# EAGLE library part JHL9480 (library JHL9480_Eagle_R01)
DISCLAIMER: THE DESIGN HASN'T BEEN VERIFIED, JUST FOR YOUR REFERENCE. EVERYTHING IS PROVIDED AS IS, WITHOUT WARRANTY OF ANY KIND, NOT RESPONSIBLE FOR THE QUALITY. If you find any issues with this file, please create an issue in the repo projects.kolabo.dev/
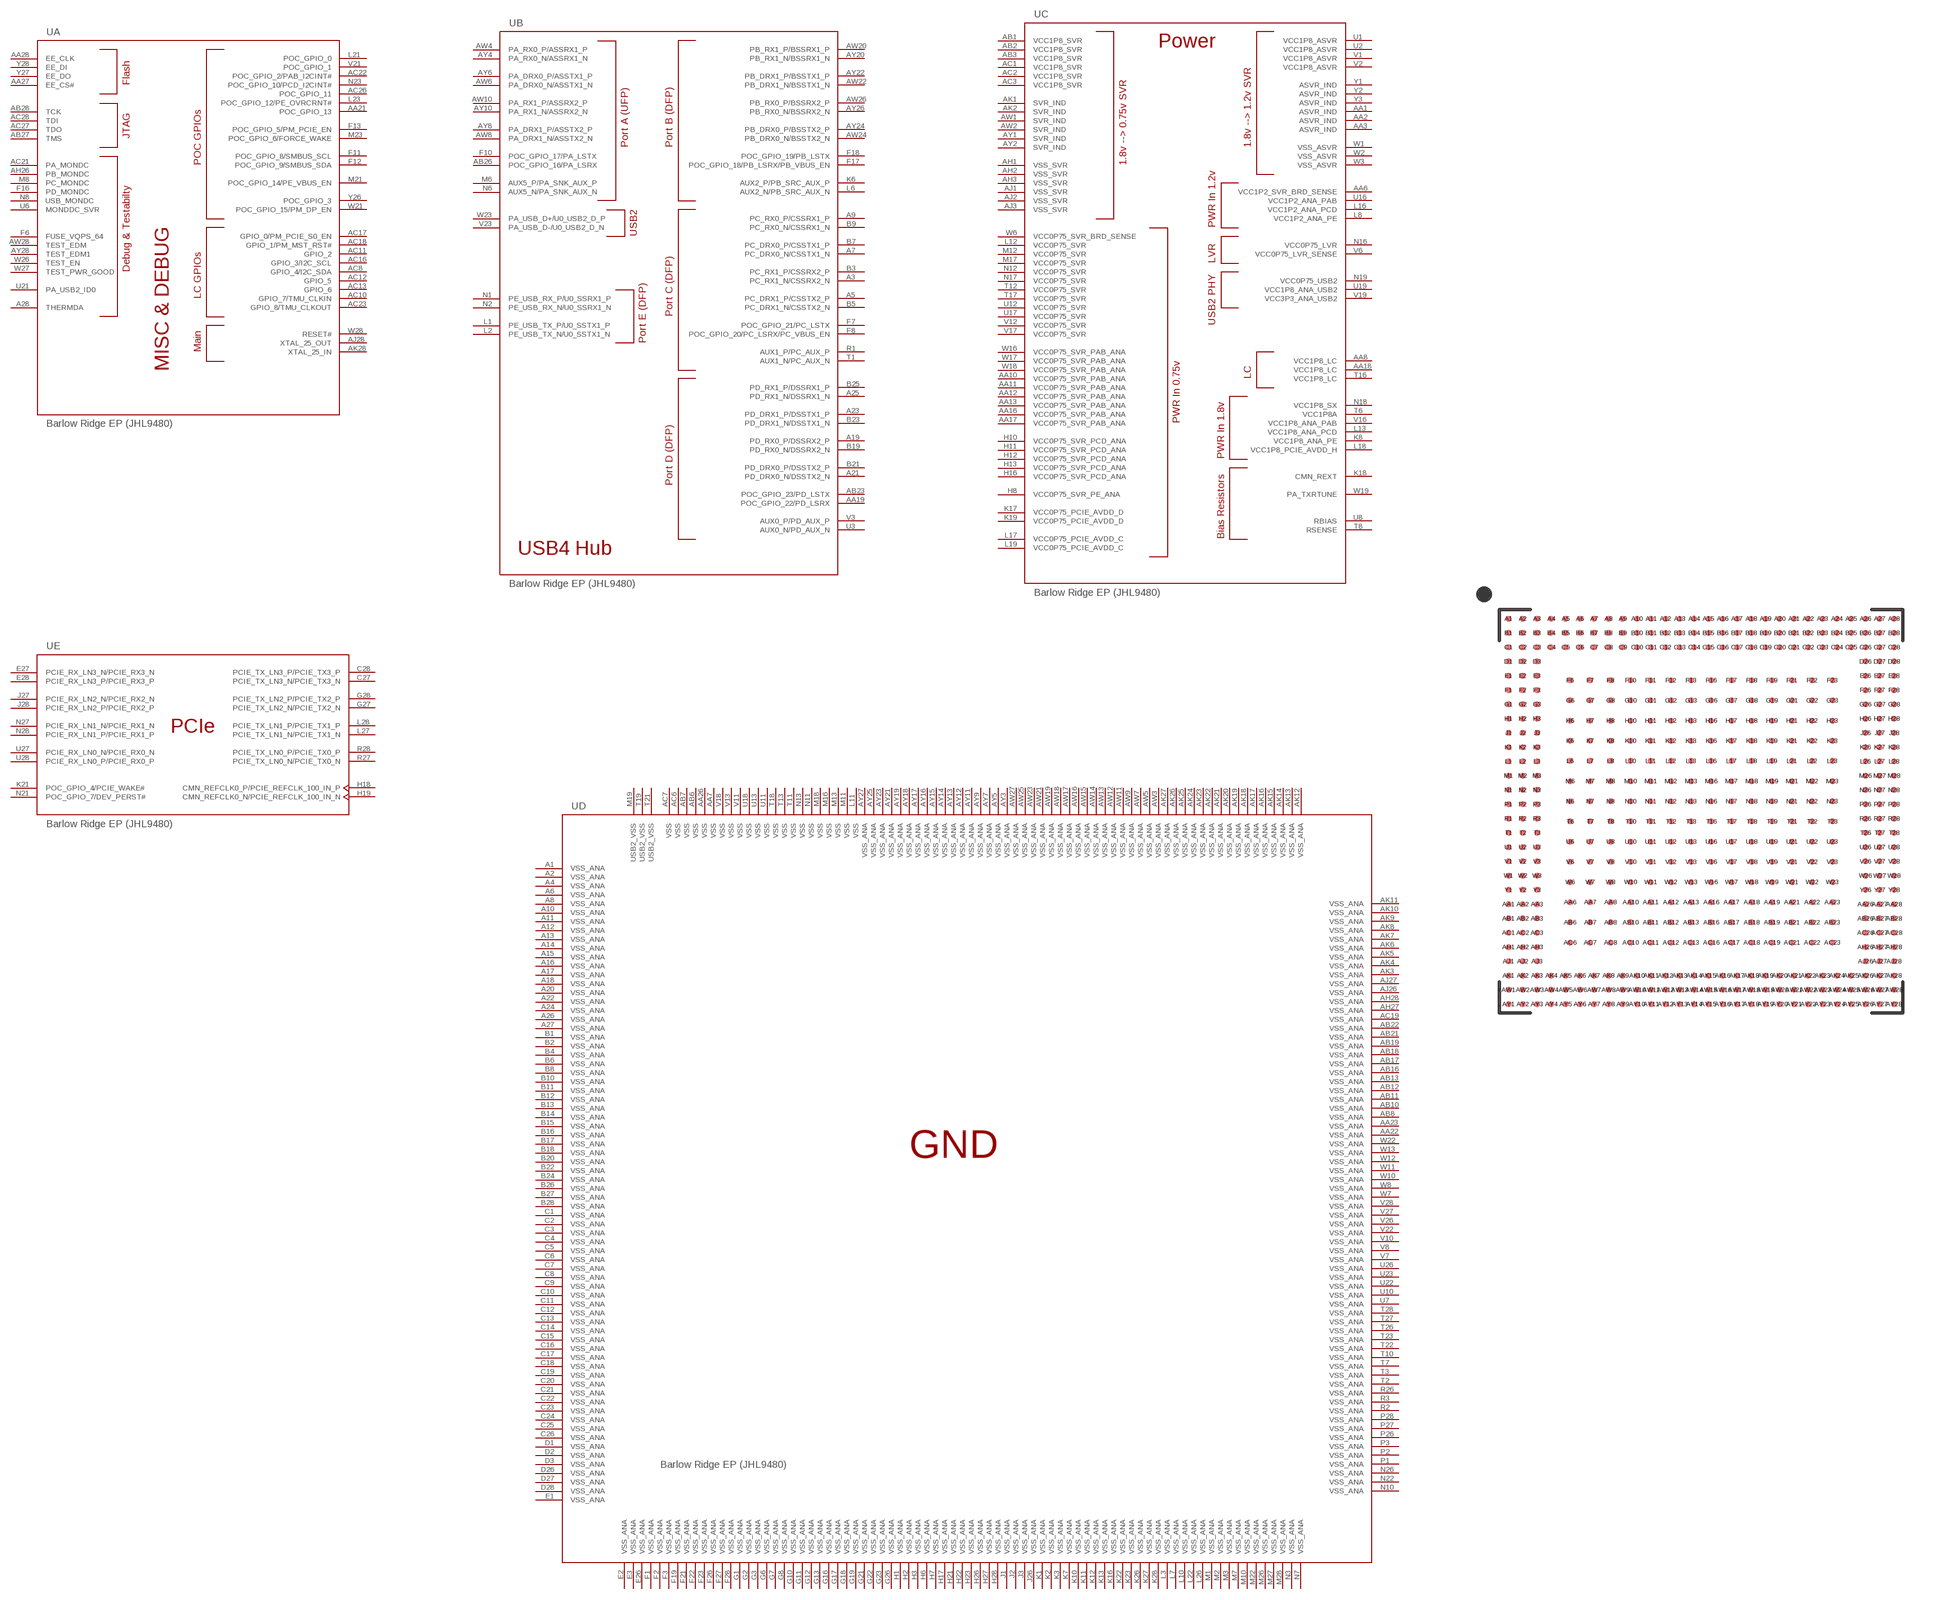
[diagram p0: symbol with the pads of BARLOW_RIDGE_BGA_496P; footprint BARLOW_RIDGE_BGA_496P]

Designator prefix -; gates A=JHL9480_A B=JHL9480_B C=JHL9480_C E=JHL9480_E D=JHL9480_D

## JHL9480B0  [BARLOW_RIDGE_BGA_496P]
A1  D:VSS_ANA
A2  D:VSS_ANA
A3  B:PC_RX1_N/CSSRX2_N
A4  D:VSS_ANA
A5  B:PC_DRX1_P/CSSTX2_P
A6  D:VSS_ANA
A7  B:PC_DRX0_N/CSSTX1_N
A8  D:VSS_ANA
A9  B:PC_RX0_P/CSSRX1_P
A10  D:VSS_ANA
A11  D:VSS_ANA
A12  D:VSS_ANA
A13  D:VSS_ANA
A14  D:VSS_ANA
A15  D:VSS_ANA
A16  D:VSS_ANA
A17  D:VSS_ANA
A18  D:VSS_ANA
A19  B:PD_RX0_P/DSSRX2_P
A20  D:VSS_ANA
A21  B:PD_DRX0_N/DSSTX2_N
A22  D:VSS_ANA
A23  B:PD_DRX1_P/DSSTX1_P
A24  D:VSS_ANA
A25  B:PD_RX1_N/DSSRX1_N
A26  D:VSS_ANA
A27  D:VSS_ANA
A28  A:THERMDA
AA1  C:ASVR_IND
AA2  C:ASVR_IND
AA3  C:ASVR_IND
AA6  C:VCC1P2_SVR_BRD_SENSE
AA7  D:VSS
AA8  C:VCC1P8_LC
AA10  C:VCC0P75_SVR_PAB_ANA
AA11  C:VCC0P75_SVR_PAB_ANA
AA12  C:VCC0P75_SVR_PAB_ANA
AA13  C:VCC0P75_SVR_PAB_ANA
AA16  C:VCC0P75_SVR_PAB_ANA
AA17  C:VCC0P75_SVR_PAB_ANA
AA18  C:VCC1P8_LC
AA19  B:POC_GPIO_22/PD_LSRX
AA21  A:POC_GPIO_13
AA22  D:VSS_ANA
AA23  D:VSS_ANA
AA26  D:VSS
AA27  A:EE_CS#
AA28  A:EE_CLK
AB1  C:VCC1P8_SVR
AB2  C:VCC1P8_SVR
AB3  C:VCC1P8_SVR
AB6  D:VSS
AB7  D:VSS
AB8  D:VSS_ANA
AB10  D:VSS_ANA
AB11  D:VSS_ANA
AB12  D:VSS_ANA
AB13  D:VSS_ANA
AB16  D:VSS_ANA
AB17  D:VSS_ANA
AB18  D:VSS_ANA
AB19  D:VSS_ANA
AB21  D:VSS_ANA
AB22  D:VSS_ANA
AB23  B:POC_GPIO_23/PD_LSTX
AB26  B:POC_GPIO_16/PA_LSRX
AB27  A:TMS
AB28  A:TCK
AC1  C:VCC1P8_SVR
AC2  C:VCC1P8_SVR
AC3  C:VCC1P8_SVR
AC6  D:VSS
AC7  D:VSS
AC8  A:GPIO_4/I2C_SDA
AC10  A:GPIO_7/TMU_CLKIN
AC11  A:GPIO_2
AC12  A:GPIO_5
AC13  A:GPIO_6
AC16  A:GPIO_3/I2C_SCL
AC17  A:GPIO_0/PM_PCIE_S0_EN
AC18  A:GPIO_1/PM_MST_RST#
AC19  D:VSS_ANA
AC21  A:PA_MONDC
AC22  A:POC_GPIO_2/PAB_I2CINT#
AC23  A:GPIO_8/TMU_CLKOUT
AC26  A:POC_GPIO_11
AC27  A:TDO
AC28  A:TDI
AH1  C:VSS_SVR
AH2  C:VSS_SVR
AH3  C:VSS_SVR
AH26  A:PB_MONDC
AH27  D:VSS_ANA
AH28  D:VSS_ANA
AJ1  C:VSS_SVR
AJ2  C:VSS_SVR
AJ3  C:VSS_SVR
AJ26  D:VSS_ANA
AJ27  D:VSS_ANA
AJ28  A:XTAL_25_OUT
AK1  C:SVR_IND
AK2  C:SVR_IND
AK3  D:VSS_ANA
AK4  D:VSS_ANA
AK5  D:VSS_ANA
AK6  D:VSS_ANA
AK7  D:VSS_ANA
AK8  D:VSS_ANA
AK9  D:VSS_ANA
AK10  D:VSS_ANA
AK11  D:VSS_ANA
AK12  D:VSS_ANA
AK13  D:VSS_ANA
AK14  D:VSS_ANA
AK15  D:VSS_ANA
AK16  D:VSS_ANA
AK17  D:VSS_ANA
AK18  D:VSS_ANA
AK19  D:VSS_ANA
AK20  D:VSS_ANA
AK21  D:VSS_ANA
AK22  D:VSS_ANA
AK23  D:VSS_ANA
AK24  D:VSS_ANA
AK25  D:VSS_ANA
AK26  D:VSS_ANA
AK27  D:VSS_ANA
AK28  A:XTAL_25_IN
AW1  C:SVR_IND
AW2  C:SVR_IND
AW3  D:VSS_ANA
AW4  B:PA_RX0_P/ASSRX1_P
AW5  D:VSS_ANA
AW6  B:PA_DRX0_N/ASSTX1_N
AW7  D:VSS_ANA
AW8  B:PA_DRX1_N/ASSTX2_N
AW9  D:VSS_ANA
AW10  B:PA_RX1_P/ASSRX2_P
AW11  D:VSS_ANA
AW12  D:VSS_ANA
AW13  D:VSS_ANA
AW14  D:VSS_ANA
AW15  D:VSS_ANA
AW16  D:VSS_ANA
AW17  D:VSS_ANA
AW18  D:VSS_ANA
AW19  D:VSS_ANA
AW20  B:PB_RX1_P/BSSRX1_P
AW21  D:VSS_ANA
AW22  B:PB_DRX1_N/BSSTX1_N
AW23  D:VSS_ANA
AW24  B:PB_DRX0_N/BSSTX2_N
AW25  D:VSS_ANA
AW26  B:PB_RX0_P/BSSRX2_P
AW27  D:VSS_ANA
AW28  A:TEST_EDM
AY1  C:SVR_IND
AY2  C:SVR_IND
AY3  D:VSS_ANA
AY4  B:PA_RX0_N/ASSRX1_N
AY5  D:VSS_ANA
AY6  B:PA_DRX0_P/ASSTX1_P
AY7  D:VSS_ANA
AY8  B:PA_DRX1_P/ASSTX2_P
AY9  D:VSS_ANA
AY10  B:PA_RX1_N/ASSRX2_N
AY11  D:VSS_ANA
AY12  D:VSS_ANA
AY13  D:VSS_ANA
AY14  D:VSS_ANA
AY15  D:VSS_ANA
AY16  D:VSS_ANA
AY17  D:VSS_ANA
AY18  D:VSS_ANA
AY19  D:VSS_ANA
AY20  B:PB_RX1_N/BSSRX1_N
AY21  D:VSS_ANA
AY22  B:PB_DRX1_P/BSSTX1_P
AY23  D:VSS_ANA
AY24  B:PB_DRX0_P/BSSTX2_P
AY25  D:VSS_ANA
AY26  B:PB_RX0_N/BSSRX2_N
AY27  D:VSS_ANA
AY28  A:TEST_EDM1
B1  D:VSS_ANA
B2  D:VSS_ANA
B3  B:PC_RX1_P/CSSRX2_P
B4  D:VSS_ANA
B5  B:PC_DRX1_N/CSSTX2_N
B6  D:VSS_ANA
B7  B:PC_DRX0_P/CSSTX1_P
B8  D:VSS_ANA
B9  B:PC_RX0_N/CSSRX1_N
B10  D:VSS_ANA
B11  D:VSS_ANA
B12  D:VSS_ANA
B13  D:VSS_ANA
B14  D:VSS_ANA
B15  D:VSS_ANA
B16  D:VSS_ANA
B17  D:VSS_ANA
B18  D:VSS_ANA
B19  B:PD_RX0_N/DSSRX2_N
B20  D:VSS_ANA
B21  B:PD_DRX0_P/DSSTX2_P
B22  D:VSS_ANA
B23  B:PD_DRX1_N/DSSTX1_N
B24  D:VSS_ANA
B25  B:PD_RX1_P/DSSRX1_P
B26  D:VSS_ANA
B27  D:VSS_ANA
B28  D:VSS_ANA
C1  D:VSS_ANA
C2  D:VSS_ANA
C3  D:VSS_ANA
C4  D:VSS_ANA
C5  D:VSS_ANA
C6  D:VSS_ANA
C7  D:VSS_ANA
C8  D:VSS_ANA
C9  D:VSS_ANA
C10  D:VSS_ANA
C11  D:VSS_ANA
C12  D:VSS_ANA
C13  D:VSS_ANA
C14  D:VSS_ANA
C15  D:VSS_ANA
C16  D:VSS_ANA
C17  D:VSS_ANA
C18  D:VSS_ANA
C19  D:VSS_ANA
C20  D:VSS_ANA
C21  D:VSS_ANA
C22  D:VSS_ANA
C23  D:VSS_ANA
C24  D:VSS_ANA
C25  D:VSS_ANA
C26  D:VSS_ANA
C27  E:PCIE_TX_LN3_N/PCIE_TX3_N
C28  E:PCIE_TX_LN3_P/PCIE_TX3_P
D1  D:VSS_ANA
D2  D:VSS_ANA
D3  D:VSS_ANA
D26  D:VSS_ANA
D27  D:VSS_ANA
D28  D:VSS_ANA
E1  D:VSS_ANA
E2  D:VSS_ANA
E3  D:VSS_ANA
E26  D:VSS_ANA
E27  E:PCIE_RX_LN3_N/PCIE_RX3_N
E28  E:PCIE_RX_LN3_P/PCIE_RX3_P
F1  D:VSS_ANA
F2  D:VSS_ANA
F3  D:VSS_ANA
F6  A:FUSE_VQPS_64
F7  B:POC_GPIO_21/PC_LSTX
F8  B:POC_GPIO_20/PC_LSRX/PC_VBUS_EN
F10  B:POC_GPIO_17/PA_LSTX
F11  A:POC_GPIO_8/SMBUS_SCL
F12  A:POC_GPIO_9/SMBUS_SDA
F13  A:POC_GPIO_5/PM_PCIE_EN
F16  A:PD_MONDC
F17  B:POC_GPIO_18/PB_LSRX/PB_VBUS_EN
F18  B:POC_GPIO_19/PB_LSTX
F19  D:VSS_ANA
F21  D:VSS_ANA
F22  D:VSS_ANA
F23  D:VSS_ANA
F26  D:VSS_ANA
F27  D:VSS_ANA
F28  D:VSS_ANA
G1  D:VSS_ANA
G2  D:VSS_ANA
G3  D:VSS_ANA
G6  D:VSS_ANA
G7  D:VSS_ANA
G8  D:VSS_ANA
G10  D:VSS_ANA
G11  D:VSS_ANA
G12  D:VSS_ANA
G13  D:VSS_ANA
G16  D:VSS_ANA
G17  D:VSS_ANA
G18  D:VSS_ANA
G19  D:VSS_ANA
G21  D:VSS_ANA
G22  D:VSS_ANA
G23  D:VSS_ANA
G26  D:VSS_ANA
G27  E:PCIE_TX_LN2_N/PCIE_TX2_N
G28  E:PCIE_TX_LN2_P/PCIE_TX2_P
H1  D:VSS_ANA
H2  D:VSS_ANA
H3  D:VSS_ANA
H6  D:VSS_ANA
H7  D:VSS_ANA
H8  C:VCC0P75_SVR_PE_ANA
H10  C:VCC0P75_SVR_PCD_ANA
H11  C:VCC0P75_SVR_PCD_ANA
H12  C:VCC0P75_SVR_PCD_ANA
H13  C:VCC0P75_SVR_PCD_ANA
H16  C:VCC0P75_SVR_PCD_ANA
H17  D:VSS_ANA
H18  E:CMN_REFCLK0_P/PCIE_REFCLK_100_IN_P  in
H19  E:CMN_REFCLK0_N/PCIE_REFCLK_100_IN_N  in
H21  D:VSS_ANA
H22  D:VSS_ANA
H23  D:VSS_ANA
H26  D:VSS_ANA
H27  D:VSS_ANA
H28  D:VSS_ANA
J1  D:VSS_ANA
J2  D:VSS_ANA
J3  D:VSS_ANA
J26  D:VSS_ANA
J27  E:PCIE_RX_LN2_N/PCIE_RX2_N
J28  E:PCIE_RX_LN2_P/PCIE_RX2_P
K1  D:VSS_ANA
K2  D:VSS_ANA
K3  D:VSS_ANA
K6  B:AUX2_P/PB_SRC_AUX_P
K7  D:VSS_ANA
K8  C:VCC1P8_ANA_PE
K10  D:VSS_ANA
K11  D:VSS_ANA
K12  D:VSS_ANA
K13  D:VSS_ANA
K16  D:VSS_ANA
K17  C:VCC0P75_PCIE_AVDD_D
K18  C:CMN_REXT
K19  C:VCC0P75_PCIE_AVDD_D
K21  E:POC_GPIO_4/PCIE_WAKE#
K22  D:VSS_ANA
K23  D:VSS_ANA
K26  D:VSS_ANA
K27  D:VSS_ANA
K28  D:VSS_ANA
L1  B:PE_USB_TX_P/U0_SSTX1_P
L2  B:PE_USB_TX_N/U0_SSTX1_N
L3  D:VSS_ANA
L6  B:AUX2_N/PB_SRC_AUX_N
L7  D:VSS_ANA
L8  C:VCC1P2_ANA_PE
L10  D:VSS_ANA
L11  D:VSS
L12  C:VCC0P75_SVR
L13  C:VCC1P8_ANA_PCD
L16  C:VCC1P2_ANA_PCD
L17  C:VCC0P75_PCIE_AVDD_C
L18  C:VCC1P8_PCIE_AVDD_H
L19  C:VCC0P75_PCIE_AVDD_C
L21  A:POC_GPIO_0
L22  D:VSS_ANA
L23  A:POC_GPIO_12/PE_OVRCRNT#
L26  D:VSS_ANA
L27  E:PCIE_TX_LN1_N/PCIE_TX1_N
L28  E:PCIE_TX_LN1_P/PCIE_TX1_P
M1  D:VSS_ANA
M2  D:VSS_ANA
M3  D:VSS_ANA
M6  B:AUX5_P/PA_SNK_AUX_P
M7  D:VSS_ANA
M8  A:PC_MONDC
M10  D:VSS_ANA
M11  D:VSS
M12  C:VCC0P75_SVR
M13  D:VSS
M16  D:VSS
M17  C:VCC0P75_SVR
M18  D:VSS
M19  D:USB2_VSS
M21  A:POC_GPIO_14/PE_VBUS_EN
M22  D:VSS_ANA
M23  A:POC_GPIO_6/FORCE_WAKE
M26  D:VSS_ANA
M27  D:VSS_ANA
M28  D:VSS_ANA
N1  B:PE_USB_RX_P/U0_SSRX1_P
N2  B:PE_USB_RX_N/U0_SSRX1_N
N3  D:VSS_ANA
N6  B:AUX5_N/PA_SNK_AUX_N
N7  D:VSS_ANA
N8  A:USB_MONDC
N10  D:VSS_ANA
N11  D:VSS
N12  C:VCC0P75_SVR
N13  D:VSS
N16  C:VCC0P75_LVR
N17  C:VCC0P75_SVR
N18  C:VCC1P8_SX
N19  C:VCC0P75_USB2
N21  E:POC_GPIO_7/DEV_PERST#
N22  D:VSS_ANA
N23  A:POC_GPIO_10/PCD_I2CINT#
N26  D:VSS_ANA
N27  E:PCIE_RX_LN1_N/PCIE_RX1_N
N28  E:PCIE_RX_LN1_P/PCIE_RX1_P
P1  D:VSS_ANA
P2  D:VSS_ANA
P3  D:VSS_ANA
P26  D:VSS_ANA
P27  D:VSS_ANA
P28  D:VSS_ANA
R1  B:AUX1_P/PC_AUX_P
R2  D:VSS_ANA
R3  D:VSS_ANA
R26  D:VSS_ANA
R27  E:PCIE_TX_LN0_N/PCIE_TX0_N
R28  E:PCIE_TX_LN0_P/PCIE_TX0_P
T1  B:AUX1_N/PC_AUX_N
T2  D:VSS_ANA
T3  D:VSS_ANA
T6  C:VCC1P8A
T7  D:VSS_ANA
T8  C:RSENSE
T10  D:VSS_ANA
T11  D:VSS
T12  C:VCC0P75_SVR
T13  D:VSS
T16  C:VCC1P8_LC
T17  C:VCC0P75_SVR
T18  D:VSS
T19  D:USB2_VSS
T21  D:USB2_VSS
T22  D:VSS_ANA
T23  D:VSS_ANA
T26  D:VSS_ANA
T27  D:VSS_ANA
T28  D:VSS_ANA
U1  C:VCC1P8_ASVR
U2  C:VCC1P8_ASVR
U3  B:AUX0_N/PD_AUX_N
U6  A:MONDDC_SVR
U7  D:VSS_ANA
U8  C:RBIAS
U10  D:VSS_ANA
U11  D:VSS
U12  C:VCC0P75_SVR
U13  D:VSS
U16  C:VCC1P2_ANA_PAB
U17  C:VCC0P75_SVR
U18  D:VSS
U19  C:VCC1P8_ANA_USB2
U21  A:PA_USB2_ID0
U22  D:VSS_ANA
U23  D:VSS_ANA
U26  D:VSS_ANA
U27  E:PCIE_RX_LN0_N/PCIE_RX0_N
U28  E:PCIE_RX_LN0_P/PCIE_RX0_P
V1  C:VCC1P8_ASVR
V2  C:VCC1P8_ASVR
V3  B:AUX0_P/PD_AUX_P
V6  C:VCC0P75_LVR_SENSE
V7  D:VSS_ANA
V8  D:VSS_ANA
V10  D:VSS_ANA
V11  D:VSS
V12  C:VCC0P75_SVR
V13  D:VSS
V16  C:VCC1P8_ANA_PAB
V17  C:VCC0P75_SVR
V18  D:VSS
V19  C:VCC3P3_ANA_USB2
V21  A:POC_GPIO_1
V22  D:VSS_ANA
V23  B:PA_USB_D-/U0_USB2_D_N
V26  D:VSS_ANA
V27  D:VSS_ANA
V28  D:VSS_ANA
W1  C:VSS_ASVR
W2  C:VSS_ASVR
W3  C:VSS_ASVR
W6  C:VCC0P75_SVR_BRD_SENSE
W7  D:VSS_ANA
W8  D:VSS_ANA
W10  D:VSS_ANA
W11  D:VSS_ANA
W12  D:VSS_ANA
W13  D:VSS_ANA
W16  C:VCC0P75_SVR_PAB_ANA
W17  C:VCC0P75_SVR_PAB_ANA
W18  C:VCC0P75_SVR_PAB_ANA
W19  C:PA_TXRTUNE
W21  A:POC_GPIO_15/PM_DP_EN
W22  D:VSS_ANA
W23  B:PA_USB_D+/U0_USB2_D_P
W26  A:TEST_EN
W27  A:TEST_PWR_GOOD
W28  A:RESET#
Y1  C:ASVR_IND
Y2  C:ASVR_IND
Y3  C:ASVR_IND
Y26  A:POC_GPIO_3
Y27  A:EE_DO
Y28  A:EE_DI

## Footprint BARLOW_RIDGE_BGA_496P (pad centres in mm)
Package Description Package Size: 13.00 x 13.00 x 0.969 mm Package Type: FC-CSP Package Pins: 496 Pins Package Outer BGA Pitch: 460μm Package Inner BGA Pitch: 650μm DISCLAIMER: THE DESIGN HASN'T BEEN VERIFIED, JUST FOR YOUR REFERENCE. EVERYTHING IS PROVIDED AS IS, WITHOUT WARRANTY OF ANY KIND, NOT RESPONSIBLE FOR THE QUALITY. If you find any issues with this file, please create an issue in the repo projects.kolabo.dev/
smd 0.2 x 0.2: A1 -6.21,6.21; A2 -5.75,6.21; A3 -5.29,6.21; A4 -4.83,6.21; A5 -4.37,6.21; A6 -3.91,6.21; A7 -3.45,6.21; A8 -2.99,6.21; A9 -2.53,6.21; A10 -2.07,6.21; A11 -1.61,6.21; A12 -1.15,6.21; A13 -0.69,6.21; A14 -0.23,6.21; A15 0.23,6.21; A16 0.69,6.21; A17 1.15,6.21; A18 1.61,6.21; A19 2.07,6.21; A20 2.53,6.21; A21 2.99,6.21; A22 3.45,6.21; A23 3.91,6.21; A24 4.37,6.21; A25 4.83,6.21; A26 5.29,6.21; A27 5.75,6.21; A28 6.21,6.21; AA1 -6.21,-2.99; AA2 -5.75,-2.99; AA3 -5.29,-2.99; AA6 -4.225,-2.925; AA7 -3.575,-2.925; AA8 -2.925,-2.925; AA10 -2.275,-2.925; AA11 -1.625,-2.925; AA12 -0.975,-2.925; AA13 -0.325,-2.925; AA16 0.325,-2.925; AA17 0.975,-2.925; AA18 1.625,-2.925; AA19 2.275,-2.925; AA21 2.925,-2.925; AA22 3.575,-2.925; AA23 4.225,-2.925; AA26 5.29,-2.99; AA27 5.75,-2.99; AA28 6.21,-2.99; AB1 -6.21,-3.45; AB2 -5.75,-3.45; AB3 -5.29,-3.45; AB6 -4.225,-3.575; AB7 -3.575,-3.575; AB8 -2.925,-3.575; AB10 -2.275,-3.575; AB11 -1.625,-3.575; AB12 -0.975,-3.575; AB13 -0.325,-3.575; AB16 0.325,-3.575; AB17 0.975,-3.575; AB18 1.625,-3.575; AB19 2.275,-3.575; AB21 2.925,-3.575; AB22 3.575,-3.575; AB23 4.225,-3.575; AB26 5.29,-3.45; AB27 5.75,-3.45; AB28 6.21,-3.45; AC1 -6.21,-3.91; AC2 -5.75,-3.91; AC3 -5.29,-3.91; AC6 -4.225,-4.225; AC7 -3.575,-4.225; AC8 -2.925,-4.225; AC10 -2.275,-4.225; AC11 -1.625,-4.225; AC12 -0.975,-4.225; AC13 -0.325,-4.225; AC16 0.325,-4.225; AC17 0.975,-4.225; AC18 1.625,-4.225; AC19 2.275,-4.225; AC21 2.925,-4.225; AC22 3.575,-4.225; AC23 4.225,-4.225; AC26 5.29,-3.91; AC27 5.75,-3.91; AC28 6.21,-3.91; AH1 -6.21,-4.37; AH2 -5.75,-4.37; AH3 -5.29,-4.37; AH26 5.29,-4.37; AH27 5.75,-4.37; AH28 6.21,-4.37; AJ1 -6.21,-4.83; AJ2 -5.75,-4.83; AJ3 -5.29,-4.83; AJ26 5.29,-4.83; AJ27 5.75,-4.83; AJ28 6.21,-4.83; AK1 -6.21,-5.29; AK2 -5.75,-5.29; AK3 -5.29,-5.29; AK4 -4.83,-5.29; AK5 -4.37,-5.29; AK6 -3.91,-5.29; AK7 -3.45,-5.29; AK8 -2.99,-5.29; AK9 -2.53,-5.29; AK10 -2.07,-5.29; AK11 -1.61,-5.29; AK12 -1.15,-5.29; AK13 -0.69,-5.29; AK14 -0.23,-5.29; AK15 0.23,-5.29; AK16 0.69,-5.29; AK17 1.15,-5.29; AK18 1.61,-5.29; AK19 2.07,-5.29; AK20 2.53,-5.29; AK21 2.99,-5.29; AK22 3.45,-5.29; AK23 3.91,-5.29; AK24 4.37,-5.29; AK25 4.83,-5.29; AK26 5.29,-5.29; AK27 5.75,-5.29; AK28 6.21,-5.29; AW1 -6.21,-5.75; AW2 -5.75,-5.75; AW3 -5.29,-5.75; AW4 -4.83,-5.75; AW5 -4.37,-5.75; AW6 -3.91,-5.75; AW7 -3.45,-5.75; AW8 -2.99,-5.75; AW9 -2.53,-5.75; AW10 -2.07,-5.75; AW11 -1.61,-5.75; AW12 -1.15,-5.75; AW13 -0.69,-5.75; AW14 -0.23,-5.75; AW15 0.23,-5.75; AW16 0.69,-5.75; AW17 1.15,-5.75; AW18 1.61,-5.75; AW19 2.07,-5.75; AW20 2.53,-5.75; AW21 2.99,-5.75; AW22 3.45,-5.75; AW23 3.91,-5.75; AW24 4.37,-5.75; AW25 4.83,-5.75; AW26 5.29,-5.75; AW27 5.75,-5.75; AW28 6.21,-5.75; AY1 -6.21,-6.21; AY2 -5.75,-6.21; AY3 -5.29,-6.21; AY4 -4.83,-6.21; AY5 -4.37,-6.21; AY6 -3.91,-6.21; AY7 -3.45,-6.21; AY8 -2.99,-6.21; AY9 -2.53,-6.21; AY10 -2.07,-6.21; AY11 -1.61,-6.21; AY12 -1.15,-6.21; AY13 -0.69,-6.21; AY14 -0.23,-6.21; AY15 0.23,-6.21; AY16 0.69,-6.21; AY17 1.15,-6.21; AY18 1.61,-6.21; AY19 2.07,-6.21; AY20 2.53,-6.21; AY21 2.99,-6.21; AY22 3.45,-6.21; AY23 3.91,-6.21; AY24 4.37,-6.21; AY25 4.83,-6.21; AY26 5.29,-6.21; AY27 5.75,-6.21; AY28 6.21,-6.21; B1 -6.21,5.75; B2 -5.75,5.75; B3 -5.29,5.75; B4 -4.83,5.75; B5 -4.37,5.75; B6 -3.91,5.75; B7 -3.45,5.75; B8 -2.99,5.75; B9 -2.53,5.75; B10 -2.07,5.75; B11 -1.61,5.75; B12 -1.15,5.75; B13 -0.69,5.75; B14 -0.23,5.75; B15 0.23,5.75; B16 0.69,5.75; B17 1.15,5.75; B18 1.61,5.75; B19 2.07,5.75; B20 2.53,5.75; B21 2.99,5.75; B22 3.45,5.75; B23 3.91,5.75; B24 4.37,5.75; B25 4.83,5.75; B26 5.29,5.75; B27 5.75,5.75; B28 6.21,5.75; C1 -6.21,5.29; C2 -5.75,5.29; C3 -5.29,5.29; C4 -4.83,5.29; C5 -4.37,5.29; C6 -3.91,5.29; C7 -3.45,5.29; C8 -2.99,5.29; C9 -2.53,5.29; C10 -2.07,5.29; C11 -1.61,5.29; C12 -1.15,5.29; C13 -0.69,5.29; C14 -0.23,5.29; C15 0.23,5.29; C16 0.69,5.29; C17 1.15,5.29; C18 1.61,5.29; C19 2.07,5.29; C20 2.53,5.29; C21 2.99,5.29; C22 3.45,5.29; C23 3.91,5.29; C24 4.37,5.29; C25 4.83,5.29; C26 5.29,5.29; C27 5.75,5.29; C28 6.21,5.29; D1 -6.21,4.83; D2 -5.75,4.83; D3 -5.29,4.83; D26 5.29,4.83; D27 5.75,4.83; D28 6.21,4.83; E1 -6.21,4.37; E2 -5.75,4.37; E3 -5.29,4.37; E26 5.29,4.37; E27 5.75,4.37; E28 6.21,4.37; F1 -6.21,3.91; F2 -5.75,3.91; F3 -5.29,3.91; F6 -4.225,4.225; F7 -3.575,4.225; F8 -2.925,4.225; F10 -2.275,4.225; F11 -1.625,4.225; F12 -0.975,4.225; F13 -0.325,4.225; F16 0.325,4.225; F17 0.975,4.225; F18 1.625,4.225; F19 2.275,4.225; F21 2.925,4.225; F22 3.575,4.225; F23 4.225,4.225; F26 5.29,3.91; F27 5.75,3.91; F28 6.21,3.91; G1 -6.21,3.45; G2 -5.75,3.45; G3 -5.29,3.45; G6 -4.225,3.575; G7 -3.575,3.575; G8 -2.925,3.575; G10 -2.275,3.575; G11 -1.625,3.575; G12 -0.975,3.575; G13 -0.325,3.575; G16 0.325,3.575; G17 0.975,3.575; G18 1.625,3.575; G19 2.275,3.575; G21 2.925,3.575; G22 3.575,3.575; G23 4.225,3.575; G26 5.29,3.45; G27 5.75,3.45; G28 6.21,3.45; H1 -6.21,2.99; H2 -5.75,2.99; H3 -5.29,2.99; H6 -4.225,2.925; H7 -3.575,2.925; H8 -2.925,2.925; H10 -2.275,2.925; H11 -1.625,2.925; H12 -0.975,2.925; H13 -0.325,2.925; H16 0.325,2.925; H17 0.975,2.925; H18 1.625,2.925; H19 2.275,2.925; H21 2.925,2.925; H22 3.575,2.925; H23 4.225,2.925; H26 5.29,2.99; H27 5.75,2.99; H28 6.21,2.99; J1 -6.21,2.53; J2 -5.75,2.53; J3 -5.29,2.53; J26 5.29,2.53; J27 5.75,2.53; J28 6.21,2.53; K1 -6.21,2.07; K2 -5.75,2.07; K3 -5.29,2.07; K6 -4.225,2.275; K7 -3.575,2.275; K8 -2.925,2.275; K10 -2.275,2.275; K11 -1.625,2.275; K12 -0.975,2.275; K13 -0.325,2.275; K16 0.325,2.275; K17 0.975,2.275; K18 1.625,2.275; K19 2.275,2.275; K21 2.925,2.275; K22 3.575,2.275; K23 4.225,2.275; K26 5.29,2.07; K27 5.75,2.07; K28 6.21,2.07; L1 -6.21,1.61; L2 -5.75,1.61; L3 -5.29,1.61; L6 -4.225,1.625; L7 -3.575,1.625; L8 -2.925,1.625; L10 -2.275,1.625; L11 -1.625,1.625; L12 -0.975,1.625; L13 -0.325,1.625; L16 0.325,1.625; L17 0.975,1.625; L18 1.625,1.625; L19 2.275,1.625; L21 2.925,1.625; L22 3.575,1.625; L23 4.225,1.625; L26 5.29,1.61; L27 5.75,1.61; L28 6.21,1.61; M1 -6.21,1.15; M2 -5.75,1.15; M3 -5.29,1.15; M6 -4.225,0.975; M7 -3.575,0.975; M8 -2.925,0.975; M10 -2.275,0.975; M11 -1.625,0.975; M12 -0.975,0.975; M13 -0.325,0.975; M16 0.325,0.975; M17 0.975,0.975; M18 1.625,0.975; M19 2.275,0.975; M21 2.925,0.975; M22 3.575,0.975; M23 4.225,0.975; M26 5.29,1.15; M27 5.75,1.15; M28 6.21,1.15; N1 -6.21,0.69; N2 -5.75,0.69; N3 -5.29,0.69; N6 -4.225,0.325; N7 -3.575,0.325; N8 -2.925,0.325; N10 -2.275,0.325; N11 -1.625,0.325; N12 -0.975,0.325; N13 -0.325,0.325; N16 0.325,0.325; N17 0.975,0.325; N18 1.625,0.325; N19 2.275,0.325; N21 2.925,0.325; N22 3.575,0.325; N23 4.225,0.325; N26 5.29,0.69; N27 5.75,0.69; N28 6.21,0.69; P1 -6.21,0.23; P2 -5.75,0.23; P3 -5.29,0.23; P26 5.29,0.23; P27 5.75,0.23; P28 6.21,0.23; R1 -6.21,-0.23; R2 -5.75,-0.23; R3 -5.29,-0.23; R26 5.29,-0.23; R27 5.75,-0.23; R28 6.21,-0.23; T1 -6.21,-0.69; T2 -5.75,-0.69; T3 -5.29,-0.69; T6 -4.225,-0.325; T7 -3.575,-0.325; T8 -2.925,-0.325; T10 -2.275,-0.325; T11 -1.625,-0.325; T12 -0.975,-0.325; T13 -0.325,-0.325; T16 0.325,-0.325; T17 0.975,-0.325; T18 1.625,-0.325; T19 2.275,-0.325; T21 2.925,-0.325; T22 3.575,-0.325; T23 4.225,-0.325; T26 5.29,-0.69; T27 5.75,-0.69; T28 6.21,-0.69; U1 -6.21,-1.15; U2 -5.75,-1.15; U3 -5.29,-1.15; U6 -4.225,-0.975; U7 -3.575,-0.975; U8 -2.925,-0.975; U10 -2.275,-0.975; U11 -1.625,-0.975; U12 -0.975,-0.975; U13 -0.325,-0.975; U16 0.325,-0.975; U17 0.975,-0.975; U18 1.625,-0.975; U19 2.275,-0.975; U21 2.925,-0.975; U22 3.575,-0.975; U23 4.225,-0.975; U26 5.29,-1.15; U27 5.75,-1.15; U28 6.21,-1.15; V1 -6.21,-1.61; V2 -5.75,-1.61; V3 -5.29,-1.61; V6 -4.225,-1.625; V7 -3.575,-1.625; V8 -2.925,-1.625; V10 -2.275,-1.625; V11 -1.625,-1.625; V12 -0.975,-1.625; V13 -0.325,-1.625; V16 0.325,-1.625; V17 0.975,-1.625; V18 1.625,-1.625; V19 2.275,-1.625; V21 2.925,-1.625; V22 3.575,-1.625; V23 4.225,-1.625; V26 5.29,-1.61; V27 5.75,-1.61; V28 6.21,-1.61; W1 -6.21,-2.07; W2 -5.75,-2.07; W3 -5.29,-2.07; W6 -4.225,-2.275; W7 -3.575,-2.275; W8 -2.925,-2.275; W10 -2.275,-2.275; W11 -1.625,-2.275; W12 -0.975,-2.275; W13 -0.325,-2.275; W16 0.325,-2.275; W17 0.975,-2.275; W18 1.625,-2.275; W19 2.275,-2.275; W21 2.925,-2.275; W22 3.575,-2.275; W23 4.225,-2.275; W26 5.29,-2.07; W27 5.75,-2.07; W28 6.21,-2.07; Y1 -6.21,-2.53; Y2 -5.75,-2.53; Y3 -5.29,-2.53; Y26 5.29,-2.53; Y27 5.75,-2.53; Y28 6.21,-2.53